# Altium footprint library PcbLib1.PcbLib: 12 footprints
Each footprint in its own frame and in the unit in brackets; x right, y up, seen from the top. Pads: shape width x height; smd on the part's side, far side on the other; paste and mask are expansions set on the pad; w line width, h text height; cw(c..) or ccw(c..) is an arc to the next point about the centre after c.
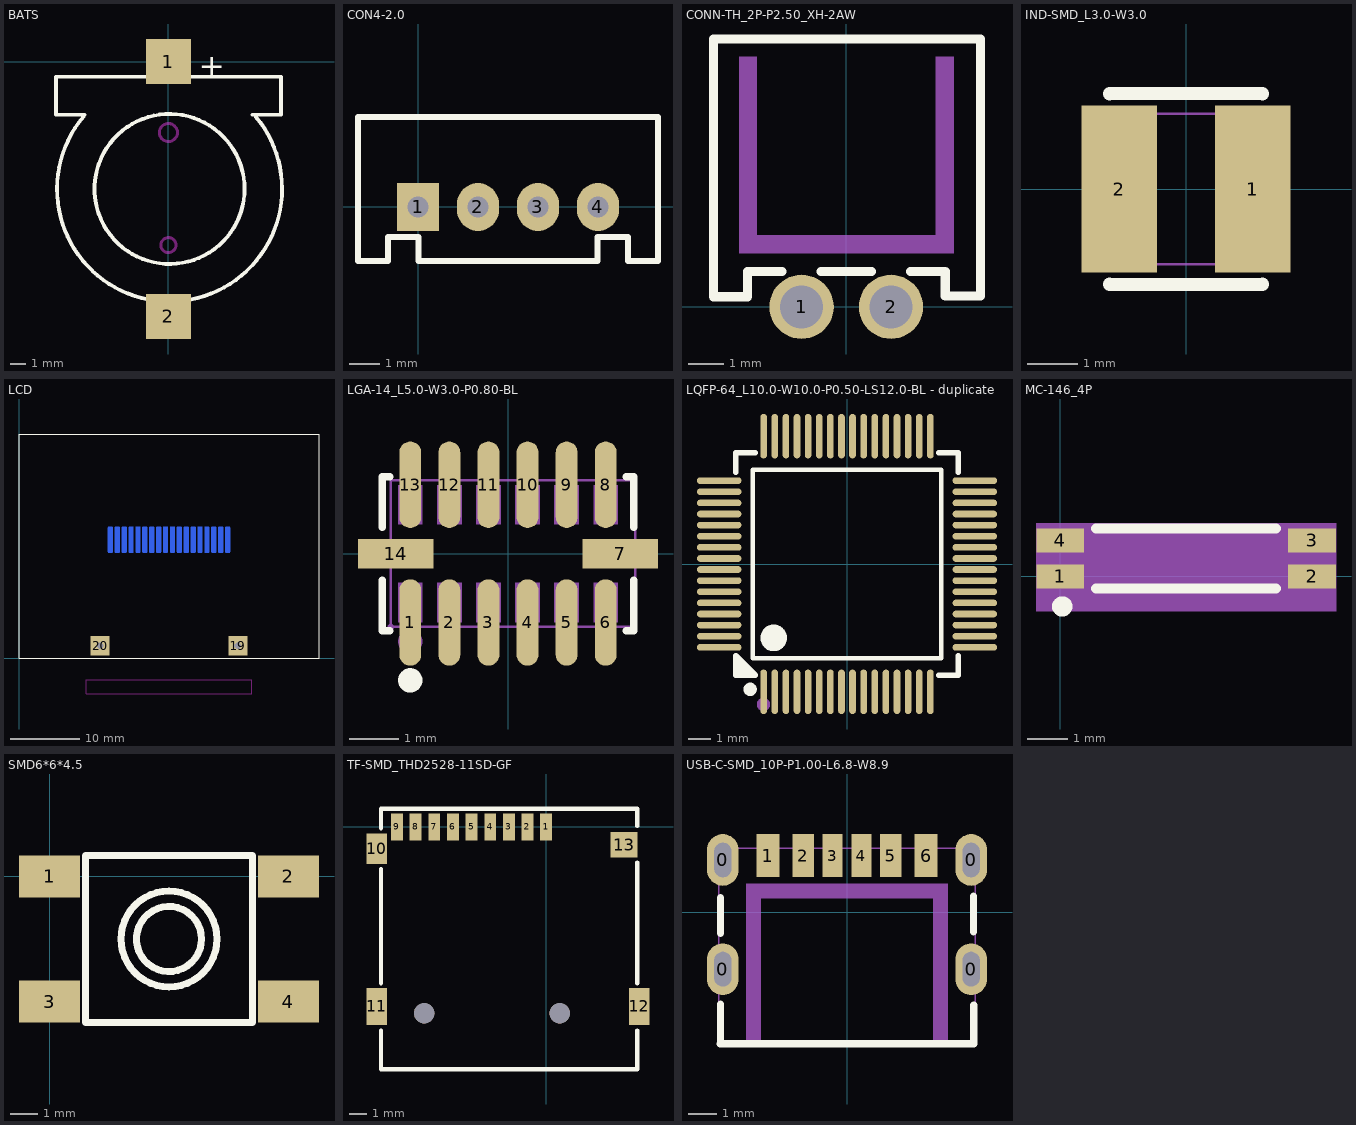
[diagram p0: the footprints below, top view; thin cyan lines are the x and y axes]

## BATS [mm]
pads (2):
  rect 3x3 smd: 1(0,0) 2(0,-16.995)
Top Overlay:
  circle w0.254: c0.08,-8.495 r5
  lines w0.254: -5.665,-3.675 ccw(c0.08,-8.495) 5.825,-3.675 ; -5.583,-3.551 -7.495,-3.552 -7.495,-1.011 7.505,-1.012 7.505,-3.552 5.593,-3.551
  text "+" at 2.032,-1.016 h1.52
Keep-Out Layer:
  circle w0.203: c0.004,-4.736 r0.6
  circle w0.203: c0.004,-12.236 r0.5

## CON4-2.0 [mm]
pads (4):
  rect 1.4x1.6 hole 0.7: 1(0,0)
  oval 1.4x1.6 hole 0.7: 2(2,0) 3(4,0) 4(6,0)
Top Overlay:
  lines w0.198: -2,3 8,3 ; 1.54,-1.8 4.46,-1.8
  lines w0.203: -2,3 -2,-1.8 -1,-1.8 -1,-0.997 0,-0.997 ; 0.016,-0.997 0.016,-1.8 1.54,-1.8 ; 4.46,-1.8 5.984,-1.8 5.984,-0.997 ; 6,-0.997 7,-0.997 7,-1.8 8,-1.8 8,3

## CONN-TH_2P-P2.50_XH-2AW [mm]
pads (2):
  round 1.8 hole 1.199: 1(-1.251,0) 2(1.251,0)
Top Overlay:
  lines w0.254: -3.715,0.283 -2.767,0.283 -2.767,0.991 -1.794,0.991 ; -3.715,0.333 -3.715,7.496 3.753,7.496 3.753,0.333 ; -0.708,0.991 0.708,0.991 ; 1.794,0.991 2.769,0.991 2.769,0.305 3.753,0.305
Mechanical 15:
  region: -3,7 -3,1.5 -2.5,1.5 -2.5,7
  region: 3,1.5 3,7 2.5,7 2.5,1.5
  region: -2.5,1.5 2.5,1.5 2.5,2 -2.5,2

## IND-SMD_L3.0-W3.0 [mm]
pads (2):
  rect 1.501x3.32 smd mask+0.051: 1(1.328,0) 2(-1.328,0)
Top Overlay:
  lines w0.254: -1.524,-1.892 -1.524,-1.905 1.524,-1.905 1.524,-1.892 ; -1.524,1.892 -1.524,1.905 1.524,1.905 1.524,1.892
Mechanical 15:
  region: 1.501,-1.45 1.501,1.45 0.749,1.45 0.749,-1.45
  region: -1.501,-1.45 -1.501,1.45 -0.749,1.45 -0.749,-1.45
  region: 1.562,1.501 1.562,1.526 1.526,1.562 1.476,1.562 1.44,1.526 1.44,1.501 1.44,1.476 1.476,1.44 1.526,1.44 1.562,1.476
  lines w0.051: -1.501,-1.501 1.501,-1.501 1.501,1.501 -1.501,1.501 -1.501,-1.501

## LCD [mm]
pads (20):
  rrect50% 0.7x3.8 smd far side: 1(30.25,17.206) 2(29.25,17.206) 3(28.25,17.206) 4(27.25,17.206) 5(26.25,17.206) 6(25.25,17.206) 7(24.25,17.206) 8(23.25,17.206) 9(22.25,17.206) 10(21.25,17.206) 11(20.25,17.206) 12(19.25,17.206) 13(18.25,17.206) 14(17.25,17.206) 15(16.25,17.206) 16(15.25,17.206) 17(14.25,17.206) 18(13.25,17.206)
  rect 2.8x2.8 hole 0.95 square: 19(31.75,1.824) 20(11.75,1.824)
Top Overlay:
  lines w0.127: 0,0 43.5,0 43.5,32.5 0,32.5 0,0
Bottom Overlay:
  lines w0.127: 11.948,14.806 14.948,11.806 ; 12.5,14.806 12.5,19.806 ; 14.142,14.806 17.142,11.806 ; 16.336,14.806 19.336,11.806 ; 16.732,6.059 16.732,0 26.772,0 26.772,6.078 32.5,11.806 ; 16.732,6.074 11,11.806 ; 18.53,14.806 21.53,11.806 ; 20.724,14.806 23.724,11.806 ; 22.918,14.806 25.918,11.806 ; 25.112,14.806 28.112,11.806 ; 27.306,14.806 30.306,11.806 ; 29.544,14.762 32.5,11.806 ; 31,14.806 31,19.806 ; 11,11.806 11,14.806 ; 11,11.806 16.75,11.806 26.75,11.806 32.5,11.806 ; 11,14.806 32.5,14.806 ; 11,14.806 11,19.806 32.5,19.806 32.5,14.806 ; 32.5,11.806 32.5,14.806
Keep-Out Layer:
  lines w0.127: 9.732,-5.135 9.732,-3.135 14.732,-3.135 28.765,-3.135 33.766,-3.135 33.766,-5.135 28.765,-5.135 14.732,-5.135 9.732,-5.135

## LGA-14_L5.0-W3.0-P0.80-BL [mm]
pads (14):
  oval 0.448x1.769 smd mask+0.051: 1(-2,-1.409) 2(-1.2,-1.409) 3(-0.4,-1.409) 4(0.4,-1.409) 5(1.2,-1.409) 6(2,-1.409) 8(2,1.409) 9(1.2,1.409) 10(0.4,1.409) 11(-0.4,1.409) 12(-1.2,1.409) 13(-2,1.409)
  rect 1.545x0.6 smd mask+0.051: 7(2.297,0) 14(-2.297,0)
Top Overlay:
  circle w0.25: c-2,-2.594 r0.125
  lines w0.152: -2.576,-0.541 -2.576,-1.576 -2.414,-1.576 ; -2.576,0.541 -2.576,1.576 -2.414,1.576 ; 2.414,-1.576 2.576,-1.576 2.576,-0.541 ; 2.414,1.576 2.576,1.576 2.576,0.541
Mechanical 6:
  circle w0.25: c-2,-1.8 r0.125
Mechanical 15:
  region: -2.4,0.25 -1.6,0.25 -1.6,-0.25 -2.4,-0.25
  region: 1.6,0.25 2.4,0.25 2.4,-0.25 1.6,-0.25
  region: 1.75,1.4 2.25,1.4 2.25,0.6 1.75,0.6
  region: 0.95,1.4 1.45,1.4 1.45,0.6 0.95,0.6
  region: 0.15,1.4 0.65,1.4 0.65,0.6 0.15,0.6
  region: -0.65,1.4 -0.15,1.4 -0.15,0.6 -0.65,0.6
  region: -1.45,1.4 -0.95,1.4 -0.95,0.6 -1.45,0.6
  region: -2.25,1.4 -1.75,1.4 -1.75,0.6 -2.25,0.6
  region: -2.25,-0.6 -1.75,-0.6 -1.75,-1.4 -2.25,-1.4
  region: -1.45,-0.6 -0.95,-0.6 -0.95,-1.4 -1.45,-1.4
  region: -0.65,-0.6 -0.15,-0.6 -0.15,-1.4 -0.65,-1.4
  region: 0.15,-0.6 0.65,-0.6 0.65,-1.4 0.15,-1.4
  region: 0.95,-0.6 1.45,-0.6 1.45,-1.4 0.95,-1.4
  region: 1.75,-0.6 2.25,-0.6 2.25,-1.4 1.75,-1.4
  region: -2.34,-1.5 -2.34,-1.475 -2.375,-1.44 -2.425,-1.44 -2.46,-1.475 -2.46,-1.5 -2.46,-1.525 -2.425,-1.56 -2.375,-1.56 -2.34,-1.525
  lines w0.051: -2.4,-1.5 2.6,-1.5 2.6,1.5 -2.4,1.5 -2.4,-1.5

## LQFP-64_L10.0-W10.0-P0.50-LS12.0-BL - duplicate [mm]
pads (64):
  oval 0.3x2 smd: 1(-3.75,-5.75) 2(-3.25,-5.75) 3(-2.75,-5.75) 4(-2.25,-5.75) 5(-1.75,-5.75) 6(-1.25,-5.75) 7(-0.75,-5.75) 8(-0.25,-5.75) 9(0.25,-5.75) 10(0.75,-5.75) 11(1.25,-5.75) 12(1.75,-5.75) 13(2.25,-5.75) 14(2.75,-5.75) 15(3.25,-5.75) 16(3.75,-5.75) 33(3.75,5.75) 34(3.25,5.75) 35(2.75,5.75) 36(2.25,5.75) 37(1.75,5.75) 38(1.25,5.75) 39(0.75,5.75) 40(0.25,5.75) 41(-0.25,5.75) 42(-0.75,5.75) 43(-1.25,5.75) 44(-1.75,5.75) 45(-2.25,5.75) 46(-2.75,5.75) 47(-3.25,5.75) 48(-3.75,5.75)
  oval 2x0.3 smd: 17(5.75,-3.75) 18(5.75,-3.25) 19(5.75,-2.75) 20(5.75,-2.25) 21(5.75,-1.75) 22(5.75,-1.25) 23(5.75,-0.75) 24(5.75,-0.25) 25(5.75,0.25) 26(5.75,0.75) 27(5.75,1.25) 28(5.75,1.75) 29(5.75,2.25) 30(5.75,2.75) 31(5.75,3.25) 32(5.75,3.75) 49(-5.75,3.75) 50(-5.75,3.25) 51(-5.75,2.75) 52(-5.75,2.25) 53(-5.75,1.75) 54(-5.75,1.25) 55(-5.75,0.75) 56(-5.75,0.25) 57(-5.75,-0.25) 58(-5.75,-0.75) 59(-5.75,-1.25) 60(-5.75,-1.75) 61(-5.75,-2.25) 62(-5.75,-2.75) 63(-5.75,-3.25) 64(-5.75,-3.75)
Top Overlay:
  region: -4.131,-5 -5,-4.131 -5,-5
  lines w0.2: -4.25,-4.25 -4.25,4.25 4.25,4.25 4.25,-4.25 -4.25,-4.25
  lines w0.254: -5,4.131 -5,5 -4.131,5 ; 4.131,-5 5,-5 5,-4.131 ; 4.131,5 5,5 5,4.131 ; -5,-4.131 -5,-4.131 ; -5,-4.131 -4.131,-5 -5,-5 -5,-4.131
  lines w0.3: -4.361,-5.49 ccw(c-4.36,-5.64) -4.359,-5.49
  lines w0.6: -3.299,-3.025 ccw(c-3.297,-3.325) -3.294,-3.025
Mechanical 15:
  circle w0.3: c-3.76,-6.32 r0.15

## MC-146_4P [mm]
pads (4):
  rect 1.2x0.6 smd: 1(0,0) 2(6.3,0) 3(6.3,0.9) 4(0,0.9)
Top Overlay:
  circle w0.254: c0.05,-0.75 r0.127
  lines w0.254: 0.9,-0.3 5.4,-0.3 ; 0.9,1.2 5.4,1.2
Mechanical 4:
  region: -0.606,1.327 6.9,1.327 6.9,-0.872 -0.606,-0.872
Mechanical 5:
  region: -0.6,0.3 0.6,0.3 0.6,-0.3 -0.6,-0.3
  region: 5.7,0.3 6.9,0.3 6.9,-0.3 5.7,-0.3
  region: 5.7,1.2 6.9,1.2 6.9,0.6 5.7,0.6
  region: -0.6,1.2 0.6,1.2 0.6,0.6 -0.6,0.6

## PCBComponent_1 [mm]

## SMD6*6*4.5 [mm]
pads (4):
  rect 2.2x1.5 smd: 1(0,0) 2(8.6,0) 3(0,-4.5) 4(8.6,-4.5)
Top Overlay:
  circle w0.254: c4.3,-2.25 r1.727
  circle w0.254: c4.3,-2.25 r1.171
  lines w0.254: 1.3,-5.25 7.3,-5.25 7.3,0.75 1.3,0.75 1.3,-5.25

## TF-SMD_THD2528-11SD-GF [mm]
pads (15):
  rect 0.7x1.6 smd: 1(0,0) 2(-1.1,0) 3(-2.2,0) 4(-3.3,0) 5(-4.4,0) 6(-5.5,0) 7(-6.6,0) 8(-7.7,0) 9(-8.8,0)
  rect 1.2x1.8 smd: 10(-10,-1.3)
  rect 1.2x2.2 smd: 11(-10,-10.6) 12(5.5,-10.6)
  rect 1.6x1.5 smd: 13(4.6,-1.05)
  round 1.2 hole 1.2 unplated: ""(-7.2,-11) ""(0.8,-11)
Top Overlay:
  lines w0.254: -9.743,-12.016 -9.743,-14.302 5.37,-14.302 5.37,-12.016 ; -9.743,-9.222 -9.743,-2.491 ; -9.743,-0.078 -9.743,1.065 5.37,1.065 5.37,0.049 ; 5.37,-9.222 5.37,-2.11

## USB-C-SMD_10P-P1.00-L6.8-W8.9 [mm]
pads (10):
  oval 1.1x1.8 hole 0.6 slot 1.2 at 90 deg mask+0.051: 0(-4.32,-1.975) 0(-4.32,1.825) 0(4.32,-1.975) 0(4.32,1.825)
  rect 0.8x1.5 smd mask+0.051: 1(-2.75,1.975) 6(2.75,1.975)
  rect 0.76x1.5 smd mask+0.051: 2(-1.52,1.975) 5(1.52,1.975)
  rect 0.7x1.5 smd mask+0.051: 3(-0.5,1.975) 4(0.5,1.975)
Top Overlay:
  lines w0.254: -4.41,-4.575 4.41,-4.575 ; -4.4,-4.575 -4.4,-3.195 ; -4.4,-0.725 -4.4,0.515 ; 4.4,-0.677 4.4,0.563 ; 4.409,-4.576 4.409,-3.225
Top Paste:
  drawing of 10 lines, arcs and shapes, not listed
Mechanical 6:
  region: -3.5,-4.5 -3.5,1 3.5,1 3.5,-4.5 3,-4.5 3,0.5 -3,0.5 -3,-4.5
Mechanical 15:
  region: -1.8,2.325 -1.24,2.325 -1.24,1.525 -1.8,1.525
  region: 1.24,2.325 1.8,2.325 1.8,1.525 1.24,1.525
  region: 0.24,2.325 0.76,2.325 0.76,1.525 0.24,1.525
  region: -0.76,2.325 -0.24,2.325 -0.24,1.525 -0.76,1.525
  region: -3.05,2.325 -2.45,2.325 -2.45,1.525 -3.05,1.525
  region: 2.45,2.325 3.05,2.325 3.05,1.525 2.45,1.525
  region: 4.17,2.225 4.47,2.225 4.47,1.425 4.17,1.425
  region: -4.47,2.225 -4.17,2.225 -4.17,1.425 -4.47,1.425
  region: 4.17,-1.575 4.47,-1.575 4.47,-2.375 4.17,-2.375
  region: -4.47,-1.575 -4.17,-1.575 -4.17,-2.375 -4.47,-2.375
  region: -4.41,2.325 -4.41,2.35 -4.445,2.385 -4.495,2.385 -4.53,2.35 -4.53,2.325 -4.53,2.3 -4.495,2.265 -4.445,2.265 -4.41,2.3
  lines w0.051: -4.47,-4.575 4.47,-4.575 4.47,2.225 -4.47,2.225 -4.47,-4.575